# EAGLE library part PIN25 (library MyLibrary)
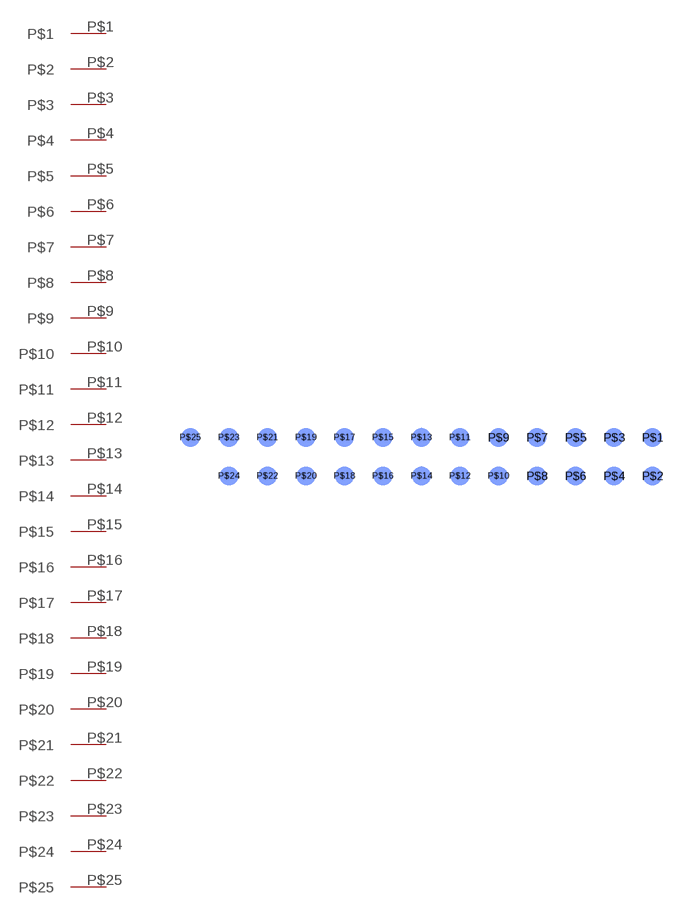
[diagram p29: symbol with the pads of 2-25; footprint 2-25]

Designator prefix -

## PIN25  [2-25]
P$1  P$1
P$2  P$2
P$3  P$3
P$4  P$4
P$5  P$5
P$6  P$6
P$7  P$7
P$8  P$8
P$9  P$9
P$10  P$10
P$11  P$11
P$12  P$12
P$13  P$13
P$14  P$14
P$15  P$15
P$16  P$16
P$17  P$17
P$18  P$18
P$19  P$19
P$20  P$20
P$21  P$21
P$22  P$22
P$23  P$23
P$24  P$24
P$25  P$25

## Footprint 2-25 (pad centres in mm)
smd 1 x 1 bottom: P$1 12,1; P$2 12,-1; P$3 10,1; P$4 10,-1; P$5 8,1; P$6 8,-1; P$7 6,1; P$8 6,-1; P$9 4,1; P$10 4,-1; P$11 2,1; P$12 2,-1; P$13 0,1; P$14 0,-1; P$15 -2,1; P$16 -2,-1; P$17 -4,1; P$18 -4,-1; P$19 -6,1; P$20 -6,-1; P$21 -8,1; P$22 -8,-1; P$23 -10,1; P$24 -10,-1; P$25 -12,1